# Altium footprint library Connector_JST.PcbLib: 558 footprints (part 18 of 35)
Each footprint in its own frame and in the unit in brackets; x right, y up, seen from the top. Pads: shape width x height; smd on the part's side, far side on the other; paste and mask are expansions set on the pad; w line width, h text height; cw(c..) or ccw(c..) is an arc to the next point about the centre after c.
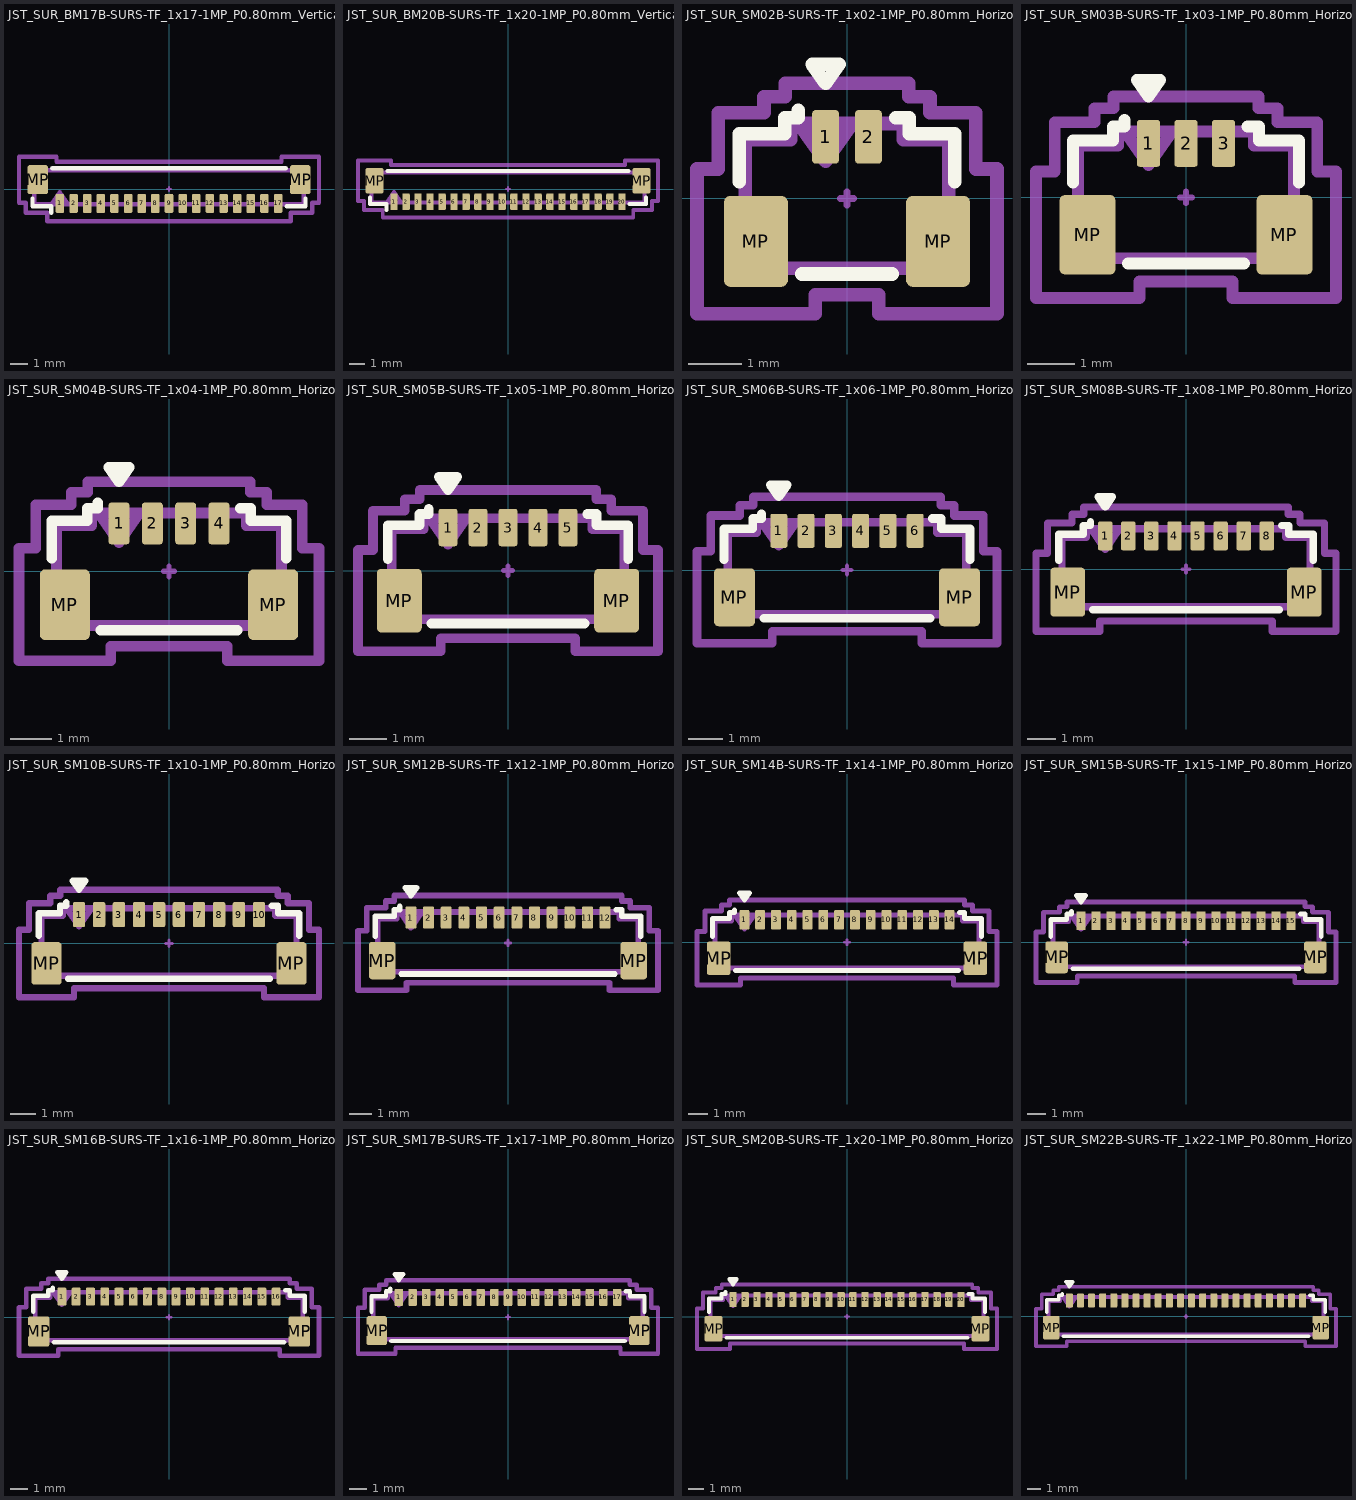
[diagram p17: the footprints below, top view; thin cyan lines are the x and y axes]

## JST_SUR_BM17B-SURS-TF_1x17-1MP_P0.80mm_Vertical [mm] "JST_SUR_BM17B-SURS-TF_1x17-1MP_P0.80mm_Vertical"
pads (19):
  rrect25% 0.5x1.1 smd: 1(-6.4,-0.85) 2(-5.6,-0.85) 3(-4.8,-0.85) 4(-4,-0.85) 5(-3.2,-0.85) 6(-2.4,-0.85) 7(-1.6,-0.85) 8(-0.8,-0.85) 9(0,-0.85) 10(0.8,-0.85) 11(1.6,-0.85) 12(2.4,-0.85) 13(3.2,-0.85) 14(4,-0.85) 15(4.8,-0.85) 16(5.6,-0.85) 17(6.4,-0.85)
  rrect21% 1.2x1.7 smd: MP(-7.7,0.55) MP(7.7,0.55)
F.SilkS:
  lines w0.254: -8.01,-0.56 -8.01,-1.01 -6.91,-1.01 -6.91,-1.4 ; -6.84,1.21 6.84,1.21 ; 6.91,-1.01 8.01,-1.01 8.01,-0.56
Top Component Center:
  lines w0.127: -0.127,0 0.127,0 ; 0,-0.127 0,0.127
Top Assembly:
  lines w0.254: -6.9,-0.9 -6.4,-0.193 -5.9,-0.9 ; -7.9,-0.9 7.9,-0.9 7.9,1.1 -7.9,1.1 -7.9,-0.9
Top Courtyard:
  lines w0.254: -8.8,-0.8 -8.4,-0.8 -8.4,-1.4 -7.15,-1.4 -7.15,-1.9 7.15,-1.9 7.15,-1.4 8.4,-1.4 8.4,-0.8 8.8,-0.8 8.8,1.9 6.6,1.9 6.6,1.6 -6.6,1.6 -6.6,1.9 -8.8,1.9 -8.8,-0.8
Top Designator:
  text ".Designator" at -3.43,-0.344 h1.52

## JST_SUR_BM20B-SURS-TF_1x20-1MP_P0.80mm_Vertical [mm] "JST_SUR_BM20B-SURS-TF_1x20-1MP_P0.80mm_Vertical"
pads (22):
  rrect25% 0.5x1.1 smd: 1(-7.6,-0.85) 2(-6.8,-0.85) 3(-6,-0.85) 4(-5.2,-0.85) 5(-4.4,-0.85) 6(-3.6,-0.85) 7(-2.8,-0.85) 8(-2,-0.85) 9(-1.2,-0.85) 10(-0.4,-0.85) 11(0.4,-0.85) 12(1.2,-0.85) 13(2,-0.85) 14(2.8,-0.85) 15(3.6,-0.85) 16(4.4,-0.85) 17(5.2,-0.85) 18(6,-0.85) 19(6.8,-0.85) 20(7.6,-0.85)
  rrect21% 1.2x1.7 smd: MP(-8.9,0.55) MP(8.9,0.55)
F.SilkS:
  lines w0.254: -9.21,-0.56 -9.21,-1.01 -8.11,-1.01 -8.11,-1.4 ; -8.04,1.21 8.04,1.21 ; 8.11,-1.01 9.21,-1.01 9.21,-0.56
Top Component Center:
  lines w0.127: -0.127,0 0.127,0 ; 0,-0.127 0,0.127
Top Assembly:
  lines w0.254: -8.1,-0.9 -7.6,-0.193 -7.1,-0.9 ; -9.1,-0.9 9.1,-0.9 9.1,1.1 -9.1,1.1 -9.1,-0.9
Top Courtyard:
  lines w0.254: -10,-0.8 -9.6,-0.8 -9.6,-1.4 -8.35,-1.4 -8.35,-1.9 8.35,-1.9 8.35,-1.4 9.6,-1.4 9.6,-0.8 10,-0.8 10,1.9 7.8,1.9 7.8,1.6 -7.8,1.6 -7.8,1.9 -10,1.9 -10,-0.8
Top Designator:
  text ".Designator" at -3.43,-0.344 h1.52

## JST_SUR_SM02B-SURS-TF_1x02-1MP_P0.80mm_Horizontal [mm] "JST_SUR_SM02B-SURS-TF_1x02-1MP_P0.80mm_Horizontal"
pads (4):
  rrect25% 0.5x1 smd: 1(-0.4,1.15) 2(0.4,1.15)
  rrect21% 1.2x1.7 smd: MP(-1.7,-0.8) MP(1.7,-0.8)
F.SilkS:
  lines w0.254: -2.01,0.31 -2.01,1.21 -1.16,1.21 -1.16,1.51 -0.91,1.51 -0.91,1.65 ; -0.84,-1.41 0.84,-1.41 ; 0.91,1.51 1.16,1.51 1.16,1.21 2.01,1.21 2.01,0.31 ; -0.65,2.504 -0.15,2.504 -0.4,2.15 -0.65,2.504
Top Component Center:
  lines w0.127: -0.127,0 0.127,0 ; 0,-0.127 0,0.127
Top Assembly:
  lines w0.254: -0.9,1.4 -0.4,0.693 0.1,1.4 ; -1.9,-1.3 1.9,-1.3 1.9,1.1 1.05,1.1 1.05,1.4 -1.05,1.4 -1.05,1.1 -1.9,1.1 -1.9,-1.3
Top Courtyard:
  lines w0.254: -2.8,-2.15 -0.59,-2.15 -0.59,-1.8 0.59,-1.8 0.59,-2.15 2.8,-2.15 2.8,0.55 2.4,0.55 2.4,1.6 1.55,1.6 1.55,1.9 1.15,1.9 1.15,2.15 -1.15,2.15 -1.15,1.9 -1.55,1.9 -1.55,1.6 -2.4,1.6 -2.4,0.55 -2.8,0.55 -2.8,-2.15
Top Designator:
  text ".Designator" at -3.57,-0.168 h1.52

## JST_SUR_SM03B-SURS-TF_1x03-1MP_P0.80mm_Horizontal [mm] "JST_SUR_SM03B-SURS-TF_1x03-1MP_P0.80mm_Horizontal"
pads (5):
  rrect25% 0.5x1 smd: 1(-0.8,1.15) 2(0,1.15) 3(0.8,1.15)
  rrect21% 1.2x1.7 smd: MP(-2.1,-0.8) MP(2.1,-0.8)
F.SilkS:
  lines w0.254: -2.41,0.31 -2.41,1.21 -1.56,1.21 -1.56,1.51 -1.31,1.51 -1.31,1.65 ; -1.24,-1.41 1.24,-1.41 ; 1.31,1.51 1.56,1.51 1.56,1.21 2.41,1.21 2.41,0.31 ; -1.05,2.504 -0.55,2.504 -0.8,2.15 -1.05,2.504
Top Component Center:
  lines w0.127: -0.127,0 0.127,0 ; 0,-0.127 0,0.127
Top Assembly:
  lines w0.254: -1.3,1.4 -0.8,0.693 -0.3,1.4 ; -2.3,-1.3 2.3,-1.3 2.3,1.1 1.45,1.1 1.45,1.4 -1.45,1.4 -1.45,1.1 -2.3,1.1 -2.3,-1.3
Top Courtyard:
  lines w0.254: -3.2,-2.15 -0.99,-2.15 -0.99,-1.8 0.99,-1.8 0.99,-2.15 3.2,-2.15 3.2,0.55 2.8,0.55 2.8,1.6 1.95,1.6 1.95,1.9 1.55,1.9 1.55,2.15 -1.55,2.15 -1.55,1.9 -1.95,1.9 -1.95,1.6 -2.8,1.6 -2.8,0.55 -3.2,0.55 -3.2,-2.15
Top Designator:
  text ".Designator" at -3.58,-0.168 h1.52

## JST_SUR_SM04B-SURS-TF_1x04-1MP_P0.80mm_Horizontal [mm] "JST_SUR_SM04B-SURS-TF_1x04-1MP_P0.80mm_Horizontal"
pads (6):
  rrect25% 0.5x1 smd: 1(-1.2,1.15) 2(-0.4,1.15) 3(0.4,1.15) 4(1.2,1.15)
  rrect21% 1.2x1.7 smd: MP(-2.5,-0.8) MP(2.5,-0.8)
F.SilkS:
  lines w0.254: -2.81,0.31 -2.81,1.21 -1.96,1.21 -1.96,1.51 -1.71,1.51 -1.71,1.65 ; -1.64,-1.41 1.64,-1.41 ; 1.71,1.51 1.96,1.51 1.96,1.21 2.81,1.21 2.81,0.31 ; -1.45,2.504 -1.2,2.15 -0.95,2.504 -1.45,2.504
Top Component Center:
  lines w0.127: -0.127,0 0.127,0 ; 0,-0.127 0,0.127
Top Assembly:
  lines w0.254: -1.7,1.4 -1.2,0.693 -0.7,1.4 ; -2.7,-1.3 -2.7,1.1 -1.85,1.1 -1.85,1.4 1.85,1.4 1.85,1.1 2.7,1.1 2.7,-1.3 -2.7,-1.3
Top Courtyard:
  lines w0.254: -3.6,-2.15 -3.6,0.55 -3.2,0.55 -3.2,1.6 -2.35,1.6 -2.35,1.9 -1.95,1.9 -1.95,2.15 1.95,2.15 1.95,1.9 2.35,1.9 2.35,1.6 3.2,1.6 3.2,0.55 3.6,0.55 3.6,-2.15 1.4,-2.15 1.4,-1.8 -1.4,-1.8 -1.4,-2.15 -3.6,-2.15
Top Designator:
  text ".Designator" at -3.43,-0.344 h1.52

## JST_SUR_SM05B-SURS-TF_1x05-1MP_P0.80mm_Horizontal [mm] "JST_SUR_SM05B-SURS-TF_1x05-1MP_P0.80mm_Horizontal"
pads (7):
  rrect25% 0.5x1 smd: 1(-1.6,1.15) 2(-0.8,1.15) 3(0,1.15) 4(0.8,1.15) 5(1.6,1.15)
  rrect21% 1.2x1.7 smd: MP(-2.9,-0.8) MP(2.9,-0.8)
F.SilkS:
  lines w0.254: -3.21,0.31 -3.21,1.21 -2.36,1.21 -2.36,1.51 -2.11,1.51 -2.11,1.65 ; -2.04,-1.41 2.04,-1.41 ; 2.11,1.51 2.36,1.51 2.36,1.21 3.21,1.21 3.21,0.31 ; -1.85,2.504 -1.6,2.15 -1.35,2.504 -1.85,2.504
Top Component Center:
  lines w0.127: -0.127,0 0.127,0 ; 0,-0.127 0,0.127
Top Assembly:
  lines w0.254: -2.1,1.4 -1.6,0.693 -1.1,1.4 ; -3.1,-1.3 -3.1,1.1 -2.25,1.1 -2.25,1.4 2.25,1.4 2.25,1.1 3.1,1.1 3.1,-1.3 -3.1,-1.3
Top Courtyard:
  lines w0.254: -4,-2.15 -4,0.55 -3.6,0.55 -3.6,1.6 -2.75,1.6 -2.75,1.9 -2.35,1.9 -2.35,2.15 2.35,2.15 2.35,1.9 2.75,1.9 2.75,1.6 3.6,1.6 3.6,0.55 4,0.55 4,-2.15 1.79,-2.15 1.79,-1.8 -1.79,-1.8 -1.79,-2.15 -4,-2.15
Top Designator:
  text ".Designator" at -3.43,-0.344 h1.52

## JST_SUR_SM06B-SURS-TF_1x06-1MP_P0.80mm_Horizontal [mm] "JST_SUR_SM06B-SURS-TF_1x06-1MP_P0.80mm_Horizontal"
pads (8):
  rrect25% 0.5x1 smd: 1(-2,1.15) 2(-1.2,1.15) 3(-0.4,1.15) 4(0.4,1.15) 5(1.2,1.15) 6(2,1.15)
  rrect21% 1.2x1.7 smd: MP(-3.3,-0.8) MP(3.3,-0.8)
F.SilkS:
  lines w0.254: -3.61,0.31 -3.61,1.21 -2.76,1.21 -2.76,1.51 -2.51,1.51 -2.51,1.65 ; -2.44,-1.41 2.44,-1.41 ; 2.51,1.51 2.76,1.51 2.76,1.21 3.61,1.21 3.61,0.31 ; -2.25,2.504 -2,2.15 -1.75,2.504 -2.25,2.504
Top Component Center:
  lines w0.127: -0.127,0 0.127,0 ; 0,-0.127 0,0.127
Top Assembly:
  lines w0.254: -2.5,1.4 -2,0.693 -1.5,1.4 ; -3.5,-1.3 -3.5,1.1 -2.65,1.1 -2.65,1.4 2.65,1.4 2.65,1.1 3.5,1.1 3.5,-1.3 -3.5,-1.3
Top Courtyard:
  lines w0.254: -4.4,-2.15 -4.4,0.55 -4,0.55 -4,1.6 -3.15,1.6 -3.15,1.9 -2.75,1.9 -2.75,2.15 2.75,2.15 2.75,1.9 3.15,1.9 3.15,1.6 4,1.6 4,0.55 4.4,0.55 4.4,-2.15 2.19,-2.15 2.19,-1.8 -2.19,-1.8 -2.19,-2.15 -4.4,-2.15
Top Designator:
  text ".Designator" at -3.43,-0.344 h1.52

## JST_SUR_SM08B-SURS-TF_1x08-1MP_P0.80mm_Horizontal [mm] "JST_SUR_SM08B-SURS-TF_1x08-1MP_P0.80mm_Horizontal"
pads (10):
  rrect25% 0.5x1 smd: 1(-2.8,1.15) 2(-2,1.15) 3(-1.2,1.15) 4(-0.4,1.15) 5(0.4,1.15) 6(1.2,1.15) 7(2,1.15) 8(2.8,1.15)
  rrect21% 1.2x1.7 smd: MP(-4.1,-0.8) MP(4.1,-0.8)
F.SilkS:
  lines w0.254: -4.41,0.31 -4.41,1.21 -3.56,1.21 -3.56,1.51 -3.31,1.51 -3.31,1.65 ; -3.24,-1.41 3.24,-1.41 ; 3.31,1.51 3.56,1.51 3.56,1.21 4.41,1.21 4.41,0.31 ; -3.05,2.504 -2.8,2.15 -2.55,2.504 -3.05,2.504
Top Component Center:
  lines w0.127: -0.127,0 0.127,0 ; 0,-0.127 0,0.127
Top Assembly:
  lines w0.254: -3.3,1.4 -2.8,0.693 -2.3,1.4 ; -4.3,-1.3 -4.3,1.1 -3.45,1.1 -3.45,1.4 3.45,1.4 3.45,1.1 4.3,1.1 4.3,-1.3 -4.3,-1.3
Top Courtyard:
  lines w0.254: -5.2,-2.15 -5.2,0.55 -4.8,0.55 -4.8,1.6 -3.95,1.6 -3.95,1.9 -3.55,1.9 -3.55,2.15 3.55,2.15 3.55,1.9 3.95,1.9 3.95,1.6 4.8,1.6 4.8,0.55 5.2,0.55 5.2,-2.15 2.99,-2.15 2.99,-1.8 -2.99,-1.8 -2.99,-2.15 -5.2,-2.15
Top Designator:
  text ".Designator" at -3.43,-0.344 h1.52

## JST_SUR_SM10B-SURS-TF_1x10-1MP_P0.80mm_Horizontal [mm] "JST_SUR_SM10B-SURS-TF_1x10-1MP_P0.80mm_Horizontal"
pads (12):
  rrect25% 0.5x1 smd: 1(-3.6,1.15) 2(-2.8,1.15) 3(-2,1.15) 4(-1.2,1.15) 5(-0.4,1.15) 6(0.4,1.15) 7(1.2,1.15) 8(2,1.15) 9(2.8,1.15) 10(3.6,1.15)
  rrect21% 1.2x1.7 smd: MP(-4.9,-0.8) MP(4.9,-0.8)
F.SilkS:
  lines w0.254: -5.21,0.31 -5.21,1.21 -4.36,1.21 -4.36,1.51 -4.11,1.51 -4.11,1.65 ; -4.04,-1.41 4.04,-1.41 ; 4.11,1.51 4.36,1.51 4.36,1.21 5.21,1.21 5.21,0.31 ; -3.85,2.504 -3.35,2.504 -3.6,2.15 -3.85,2.504
Top Component Center:
  lines w0.127: -0.127,0 0.127,0 ; 0,-0.127 0,0.127
Top Assembly:
  lines w0.254: -4.1,1.4 -3.6,0.693 -3.1,1.4 ; -5.1,-1.3 5.1,-1.3 5.1,1.1 4.25,1.1 4.25,1.4 -4.25,1.4 -4.25,1.1 -5.1,1.1 -5.1,-1.3
Top Courtyard:
  lines w0.254: -6,-2.15 -3.8,-2.15 -3.8,-1.8 3.8,-1.8 3.8,-2.15 6,-2.15 6,0.55 5.6,0.55 5.6,1.6 4.75,1.6 4.75,1.9 4.35,1.9 4.35,2.15 -4.35,2.15 -4.35,1.9 -4.75,1.9 -4.75,1.6 -5.6,1.6 -5.6,0.55 -6,0.55 -6,-2.15
Top Designator:
  text ".Designator" at -3.43,-0.344 h1.52

## JST_SUR_SM12B-SURS-TF_1x12-1MP_P0.80mm_Horizontal [mm] "JST_SUR_SM12B-SURS-TF_1x12-1MP_P0.80mm_Horizontal"
pads (14):
  rrect25% 0.5x1 smd: 1(-4.4,1.15) 2(-3.6,1.15) 3(-2.8,1.15) 4(-2,1.15) 5(-1.2,1.15) 6(-0.4,1.15) 7(0.4,1.15) 8(1.2,1.15) 9(2,1.15) 10(2.8,1.15) 11(3.6,1.15) 12(4.4,1.15)
  rrect21% 1.2x1.7 smd: MP(-5.7,-0.8) MP(5.7,-0.8)
F.SilkS:
  lines w0.254: -6.01,0.31 -6.01,1.21 -5.16,1.21 -5.16,1.51 -4.91,1.51 -4.91,1.65 ; -4.84,-1.41 4.84,-1.41 ; 4.91,1.51 5.16,1.51 5.16,1.21 6.01,1.21 6.01,0.31 ; -4.65,2.504 -4.15,2.504 -4.4,2.15 -4.65,2.504
Top Component Center:
  lines w0.127: -0.127,0 0.127,0 ; 0,-0.127 0,0.127
Top Assembly:
  lines w0.254: -4.9,1.4 -4.4,0.693 -3.9,1.4 ; -5.9,-1.3 5.9,-1.3 5.9,1.1 5.05,1.1 5.05,1.4 -5.05,1.4 -5.05,1.1 -5.9,1.1 -5.9,-1.3
Top Courtyard:
  lines w0.254: -6.8,-2.15 -4.6,-2.15 -4.6,-1.8 4.6,-1.8 4.6,-2.15 6.8,-2.15 6.8,0.55 6.4,0.55 6.4,1.6 5.55,1.6 5.55,1.9 5.15,1.9 5.15,2.15 -5.15,2.15 -5.15,1.9 -5.55,1.9 -5.55,1.6 -6.4,1.6 -6.4,0.55 -6.8,0.55 -6.8,-2.15
Top Designator:
  text ".Designator" at -3.43,-0.344 h1.52

## JST_SUR_SM14B-SURS-TF_1x14-1MP_P0.80mm_Horizontal [mm] "JST_SUR_SM14B-SURS-TF_1x14-1MP_P0.80mm_Horizontal"
pads (16):
  rrect25% 0.5x1 smd: 1(-5.2,1.15) 2(-4.4,1.15) 3(-3.6,1.15) 4(-2.8,1.15) 5(-2,1.15) 6(-1.2,1.15) 7(-0.4,1.15) 8(0.4,1.15) 9(1.2,1.15) 10(2,1.15) 11(2.8,1.15) 12(3.6,1.15) 13(4.4,1.15) 14(5.2,1.15)
  rrect21% 1.2x1.7 smd: MP(-6.5,-0.8) MP(6.5,-0.8)
F.SilkS:
  lines w0.254: -6.81,0.31 -6.81,1.21 -5.96,1.21 -5.96,1.51 -5.71,1.51 -5.71,1.65 ; -5.64,-1.41 5.64,-1.41 ; 5.71,1.51 5.96,1.51 5.96,1.21 6.81,1.21 6.81,0.31 ; -5.45,2.504 -4.95,2.504 -5.2,2.15 -5.45,2.504
Top Component Center:
  lines w0.127: -0.127,0 0.127,0 ; 0,-0.127 0,0.127
Top Assembly:
  lines w0.254: -5.7,1.4 -5.2,0.693 -4.7,1.4 ; -6.7,-1.3 6.7,-1.3 6.7,1.1 5.85,1.1 5.85,1.4 -5.85,1.4 -5.85,1.1 -6.7,1.1 -6.7,-1.3
Top Courtyard:
  lines w0.254: -7.6,-2.15 -5.4,-2.15 -5.4,-1.8 5.4,-1.8 5.4,-2.15 7.6,-2.15 7.6,0.55 7.2,0.55 7.2,1.6 6.35,1.6 6.35,1.9 5.95,1.9 5.95,2.15 -5.95,2.15 -5.95,1.9 -6.35,1.9 -6.35,1.6 -7.2,1.6 -7.2,0.55 -7.6,0.55 -7.6,-2.15
Top Designator:
  text ".Designator" at -3.43,-0.344 h1.52

## JST_SUR_SM15B-SURS-TF_1x15-1MP_P0.80mm_Horizontal [mm] "JST_SUR_SM15B-SURS-TF_1x15-1MP_P0.80mm_Horizontal"
pads (17):
  rrect25% 0.5x1 smd: 1(-5.6,1.15) 2(-4.8,1.15) 3(-4,1.15) 4(-3.2,1.15) 5(-2.4,1.15) 6(-1.6,1.15) 7(-0.8,1.15) 8(0,1.15) 9(0.8,1.15) 10(1.6,1.15) 11(2.4,1.15) 12(3.2,1.15) 13(4,1.15) 14(4.8,1.15) 15(5.6,1.15)
  rrect21% 1.2x1.7 smd: MP(-6.9,-0.8) MP(6.9,-0.8)
F.SilkS:
  lines w0.254: -7.21,0.31 -7.21,1.21 -6.36,1.21 -6.36,1.51 -6.11,1.51 -6.11,1.65 ; -6.04,-1.41 6.04,-1.41 ; 6.11,1.51 6.36,1.51 6.36,1.21 7.21,1.21 7.21,0.31 ; -5.85,2.504 -5.6,2.15 -5.35,2.504 -5.85,2.504
Top Component Center:
  lines w0.127: -0.127,0 0.127,0 ; 0,-0.127 0,0.127
Top Assembly:
  lines w0.254: -6.1,1.4 -5.6,0.693 -5.1,1.4 ; -7.1,-1.3 -7.1,1.1 -6.25,1.1 -6.25,1.4 6.25,1.4 6.25,1.1 7.1,1.1 7.1,-1.3 -7.1,-1.3
Top Courtyard:
  lines w0.254: -8,-2.15 -8,0.55 -7.6,0.55 -7.6,1.6 -6.75,1.6 -6.75,1.9 -6.35,1.9 -6.35,2.15 6.35,2.15 6.35,1.9 6.75,1.9 6.75,1.6 7.6,1.6 7.6,0.55 8,0.55 8,-2.15 5.8,-2.15 5.8,-1.8 -5.8,-1.8 -5.8,-2.15 -8,-2.15
Top Designator:
  text ".Designator" at -3.43,-0.344 h1.52

## JST_SUR_SM16B-SURS-TF_1x16-1MP_P0.80mm_Horizontal [mm] "JST_SUR_SM16B-SURS-TF_1x16-1MP_P0.80mm_Horizontal"
pads (18):
  rrect25% 0.5x1 smd: 1(-6,1.15) 2(-5.2,1.15) 3(-4.4,1.15) 4(-3.6,1.15) 5(-2.8,1.15) 6(-2,1.15) 7(-1.2,1.15) 8(-0.4,1.15) 9(0.4,1.15) 10(1.2,1.15) 11(2,1.15) 12(2.8,1.15) 13(3.6,1.15) 14(4.4,1.15) 15(5.2,1.15) 16(6,1.15)
  rrect21% 1.2x1.7 smd: MP(-7.3,-0.8) MP(7.3,-0.8)
F.SilkS:
  lines w0.254: -7.61,0.31 -7.61,1.21 -6.76,1.21 -6.76,1.51 -6.51,1.51 -6.51,1.65 ; -6.44,-1.41 6.44,-1.41 ; 6.51,1.51 6.76,1.51 6.76,1.21 7.61,1.21 7.61,0.31 ; -6.25,2.504 -5.75,2.504 -6,2.15 -6.25,2.504
Top Component Center:
  lines w0.127: -0.127,0 0.127,0 ; 0,-0.127 0,0.127
Top Assembly:
  lines w0.254: -6.5,1.4 -6,0.693 -5.5,1.4 ; -7.5,-1.3 7.5,-1.3 7.5,1.1 6.65,1.1 6.65,1.4 -6.65,1.4 -6.65,1.1 -7.5,1.1 -7.5,-1.3
Top Courtyard:
  lines w0.254: -8.4,-2.15 -6.2,-2.15 -6.2,-1.8 6.2,-1.8 6.2,-2.15 8.4,-2.15 8.4,0.55 8,0.55 8,1.6 7.15,1.6 7.15,1.9 6.75,1.9 6.75,2.15 -6.75,2.15 -6.75,1.9 -7.15,1.9 -7.15,1.6 -8,1.6 -8,0.55 -8.4,0.55 -8.4,-2.15
Top Designator:
  text ".Designator" at -3.43,-0.344 h1.52

## JST_SUR_SM17B-SURS-TF_1x17-1MP_P0.80mm_Horizontal [mm] "JST_SUR_SM17B-SURS-TF_1x17-1MP_P0.80mm_Horizontal"
pads (19):
  rrect25% 0.5x1 smd: 1(-6.4,1.15) 2(-5.6,1.15) 3(-4.8,1.15) 4(-4,1.15) 5(-3.2,1.15) 6(-2.4,1.15) 7(-1.6,1.15) 8(-0.8,1.15) 9(0,1.15) 10(0.8,1.15) 11(1.6,1.15) 12(2.4,1.15) 13(3.2,1.15) 14(4,1.15) 15(4.8,1.15) 16(5.6,1.15) 17(6.4,1.15)
  rrect21% 1.2x1.7 smd: MP(-7.7,-0.8) MP(7.7,-0.8)
F.SilkS:
  lines w0.254: -8.01,0.31 -8.01,1.21 -7.16,1.21 -7.16,1.51 -6.91,1.51 -6.91,1.65 ; -6.84,-1.41 6.84,-1.41 ; 6.91,1.51 7.16,1.51 7.16,1.21 8.01,1.21 8.01,0.31 ; -6.65,2.504 -6.4,2.15 -6.15,2.504 -6.65,2.504
Top Component Center:
  lines w0.127: -0.127,0 0.127,0 ; 0,-0.127 0,0.127
Top Assembly:
  lines w0.254: -6.9,1.4 -6.4,0.693 -5.9,1.4 ; -7.9,-1.3 -7.9,1.1 -7.05,1.1 -7.05,1.4 7.05,1.4 7.05,1.1 7.9,1.1 7.9,-1.3 -7.9,-1.3
Top Courtyard:
  lines w0.254: -8.8,-2.15 -8.8,0.55 -8.4,0.55 -8.4,1.6 -7.55,1.6 -7.55,1.9 -7.15,1.9 -7.15,2.15 7.15,2.15 7.15,1.9 7.55,1.9 7.55,1.6 8.4,1.6 8.4,0.55 8.8,0.55 8.8,-2.15 6.6,-2.15 6.6,-1.8 -6.6,-1.8 -6.6,-2.15 -8.8,-2.15
Top Designator:
  text ".Designator" at -3.43,-0.344 h1.52

## JST_SUR_SM20B-SURS-TF_1x20-1MP_P0.80mm_Horizontal [mm] "JST_SUR_SM20B-SURS-TF_1x20-1MP_P0.80mm_Horizontal"
pads (22):
  rrect25% 0.5x1 smd: 1(-7.6,1.15) 2(-6.8,1.15) 3(-6,1.15) 4(-5.2,1.15) 5(-4.4,1.15) 6(-3.6,1.15) 7(-2.8,1.15) 8(-2,1.15) 9(-1.2,1.15) 10(-0.4,1.15) 11(0.4,1.15) 12(1.2,1.15) 13(2,1.15) 14(2.8,1.15) 15(3.6,1.15) 16(4.4,1.15) 17(5.2,1.15) 18(6,1.15) 19(6.8,1.15) 20(7.6,1.15)
  rrect21% 1.2x1.7 smd: MP(-8.9,-0.8) MP(8.9,-0.8)
F.SilkS:
  lines w0.254: -9.21,0.31 -9.21,1.21 -8.36,1.21 -8.36,1.51 -8.11,1.51 -8.11,1.65 ; -8.04,-1.41 8.04,-1.41 ; 8.11,1.51 8.36,1.51 8.36,1.21 9.21,1.21 9.21,0.31 ; -7.85,2.504 -7.6,2.15 -7.35,2.504 -7.85,2.504
Top Component Center:
  lines w0.127: -0.127,0 0.127,0 ; 0,-0.127 0,0.127
Top Assembly:
  lines w0.254: -8.1,1.4 -7.6,0.693 -7.1,1.4 ; -9.1,-1.3 -9.1,1.1 -8.25,1.1 -8.25,1.4 8.25,1.4 8.25,1.1 9.1,1.1 9.1,-1.3 -9.1,-1.3
Top Courtyard:
  lines w0.254: -10,-2.15 -10,0.55 -9.6,0.55 -9.6,1.6 -8.75,1.6 -8.75,1.9 -8.35,1.9 -8.35,2.15 8.35,2.15 8.35,1.9 8.75,1.9 8.75,1.6 9.6,1.6 9.6,0.55 10,0.55 10,-2.15 7.8,-2.15 7.8,-1.8 -7.8,-1.8 -7.8,-2.15 -10,-2.15
Top Designator:
  text ".Designator" at -3.43,-0.344 h1.52

## JST_SUR_SM22B-SURS-TF_1x22-1MP_P0.80mm_Horizontal [mm] "JST_SUR_SM22B-SURS-TF_1x22-1MP_P0.80mm_Horizontal"
pads (24):
  rrect25% 0.5x1 smd: 1(-8.4,1.15) 2(-7.6,1.15) 3(-6.8,1.15) 4(-6,1.15) 5(-5.2,1.15) 6(-4.4,1.15) 7(-3.6,1.15) 8(-2.8,1.15) 9(-2,1.15) 10(-1.2,1.15) 11(-0.4,1.15) 12(0.4,1.15) 13(1.2,1.15) 14(2,1.15) 15(2.8,1.15) 16(3.6,1.15) 17(4.4,1.15) 18(5.2,1.15) 19(6,1.15) 20(6.8,1.15) 21(7.6,1.15) 22(8.4,1.15)
  rrect21% 1.2x1.7 smd: MP(-9.7,-0.8) MP(9.7,-0.8)
F.SilkS:
  lines w0.254: -10.01,0.31 -10.01,1.21 -9.16,1.21 -9.16,1.51 -8.91,1.51 -8.91,1.65 ; -8.84,-1.41 8.84,-1.41 ; 8.91,1.51 9.16,1.51 9.16,1.21 10.01,1.21 10.01,0.31 ; -8.65,2.504 -8.4,2.15 -8.15,2.504 -8.65,2.504
Top Component Center:
  lines w0.127: -0.127,0 0.127,0 ; 0,-0.127 0,0.127
Top Assembly:
  lines w0.254: -8.9,1.4 -8.4,0.693 -7.9,1.4 ; -9.9,-1.3 -9.9,1.1 -9.05,1.1 -9.05,1.4 9.05,1.4 9.05,1.1 9.9,1.1 9.9,-1.3 -9.9,-1.3
Top Courtyard:
  lines w0.254: -10.8,-2.15 -10.8,0.55 -10.4,0.55 -10.4,1.6 -9.55,1.6 -9.55,1.9 -9.15,1.9 -9.15,2.15 9.15,2.15 9.15,1.9 9.55,1.9 9.55,1.6 10.4,1.6 10.4,0.55 10.8,0.55 10.8,-2.15 8.6,-2.15 8.6,-1.8 -8.6,-1.8 -8.6,-2.15 -10.8,-2.15
Top Designator:
  text ".Designator" at -3.43,-0.344 h1.52